# Altium schematic symbol library BAT54C-7-F.SchLib: 1 symbol
Pins are listed as number, name and electrical type; pins without a type are passive.

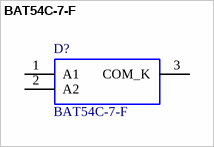
[diagram p0: symbol BAT54C-7-F]

## BAT54C-7-F
designator D?
DiodesZetex   ,  30V, 3 SOT-23,  +150 C; Manufacturer_Name: Diodes Incorporated; Geometry.Height: 1.15mm; Manufacturer_Part_Number: BAT54C-7-F; Mouser Part Number: 621-BAT54C-F; Mouser Price/Stock: https://www.mouser.co.uk/ProductDetail/Diodes-Incorporated/BAT54C-7-F?qs=A%2FGeX6qn32NJhN9M%2F3GNcA%3D%3D; Arrow Part Number: BAT54C-7-F; Arrow Price/Stock: https://www.arrow.com/en/products/bat54c-7-f/diodes-incorporated?utm_currency=USD&region=nac; Datasheet Link: https://www.diodes.com//assets/Datasheets/BAT54_A_C_S.pdf
footprint SOT96P240X115-3N
pins: 1 A1, 2 A2, 3 COM_K